# Altium schematic symbol library PJ-042H.SchLib: 1 symbol
Pins are listed as number, name and electrical type; pins without a type are passive.

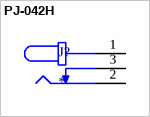
[diagram p0: symbol PJ-042H]

## PJ-042H
designator J?
1.65 mm Center Pin, 2.5 A, Right Angle, Through Hole, Kinked Pins, Dc Power Jack Connector; MF: {'manufacturer': u'CUI'}; MP: PJ-042H; Value: *; Availability: Unavailable; Price: None; Package: None
footprint CUI_PJ-042H
pins: 1, 2, 3